# EAGLE library part R-0603-ARRAY-4X (library di_rlc)
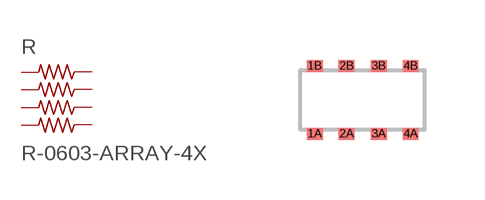
[diagram p0: symbol with the pads of R-0603-ARRAY-4X; footprint R-0603-ARRAY-4X]

Designator prefix R

## R-0603-ARRAY-4X  [R-0603-ARRAY-4X]
1A  1A  pas
1B  1B  pas
2A  2A  pas
2B  2B  pas
3A  3A  pas
3B  3B  pas
4A  4A  pas
4B  4B  pas

## Footprint R-0603-ARRAY-4X (pad centres in mm)
smd 0.4 x 0.3: 1A -1.2,-0.85; 1B -1.2,0.85; 2A -0.4,-0.85; 2B -0.4,0.85; 3A 0.4,-0.85; 3B 0.4,0.85; 4A 1.2,-0.85; 4B 1.2,0.85